# Altium footprint library PCBFeatures.PcbLib: 17 footprints (part 1 of 2)
Each footprint in its own frame and in the unit in brackets; x right, y up, seen from the top. Pads: shape width x height; smd on the part's side, far side on the other; paste and mask are expansions set on the pad; w line width, h text height; cw(c..) or ccw(c..) is an arc to the next point about the centre after c.
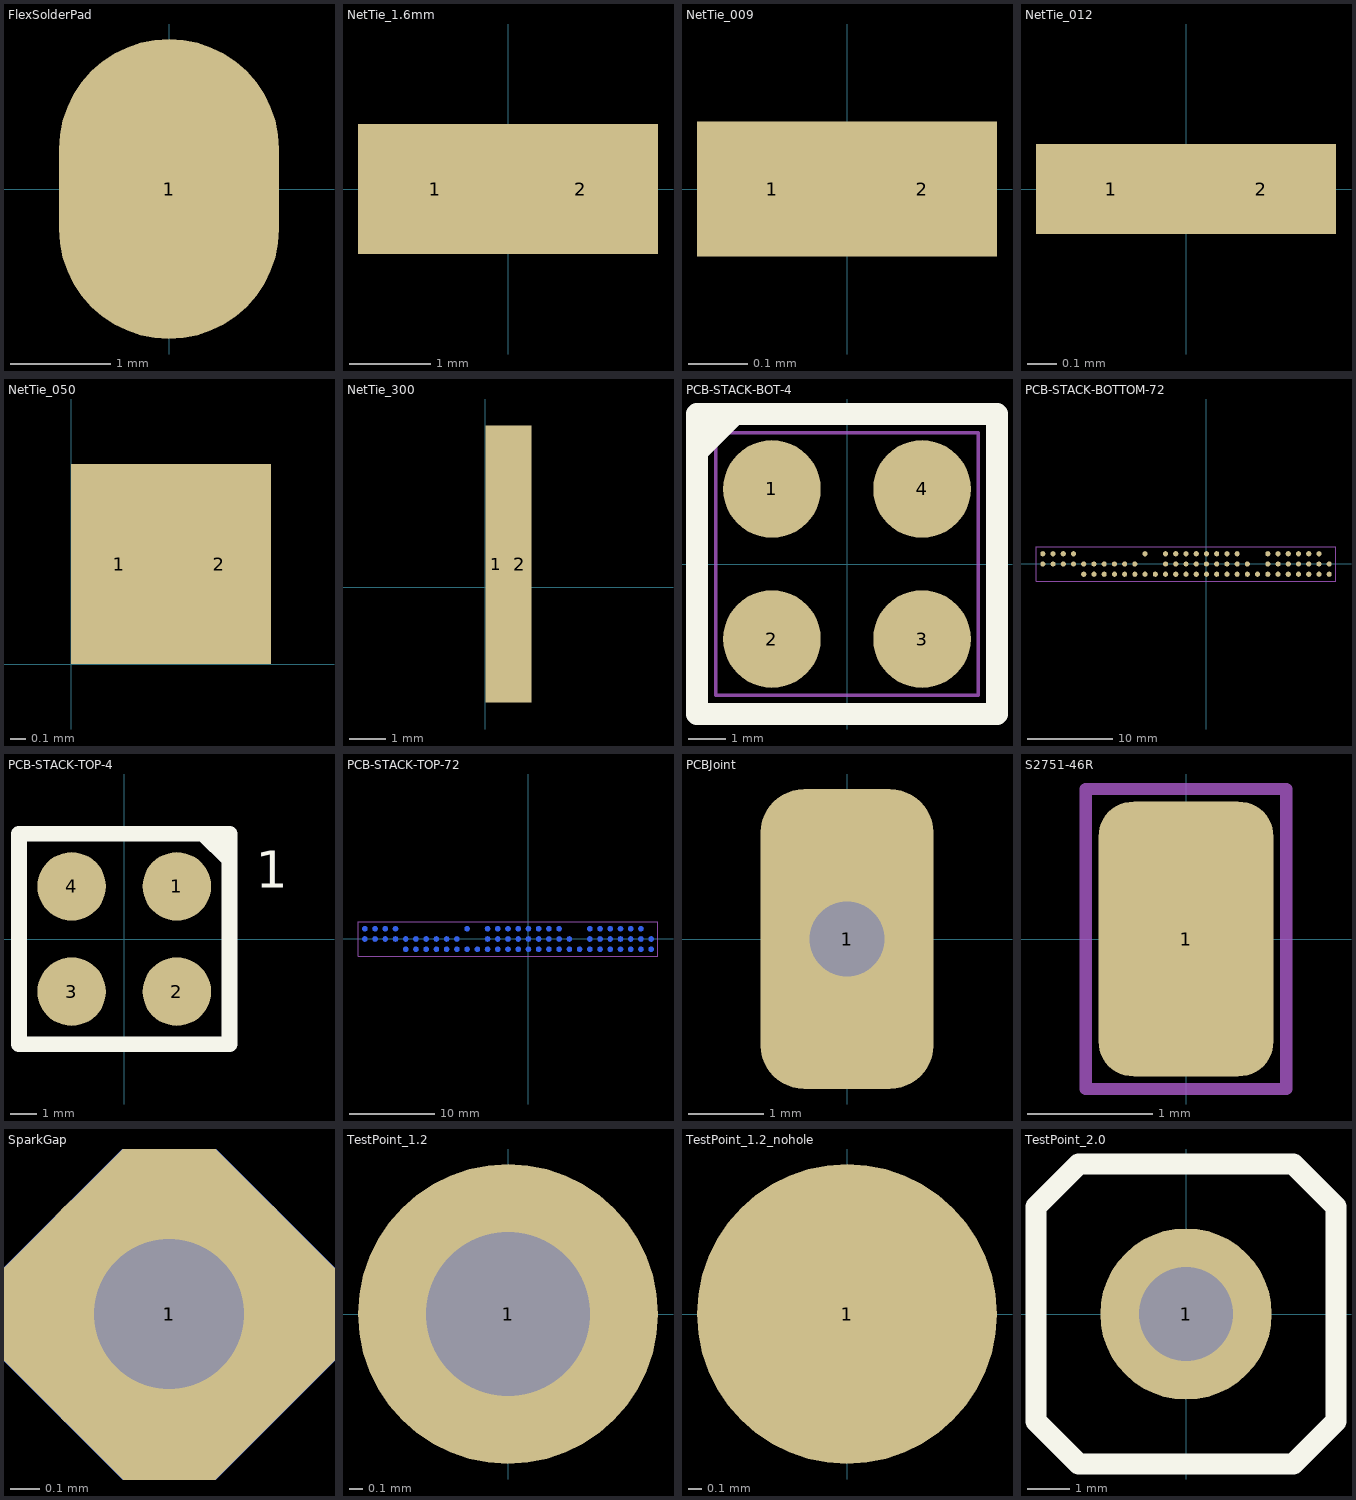
[diagram p0: the footprints below, top view; thin cyan lines are the x and y axes]

## FlexSolderPad [mm]
pads (1):
  oval 2.2x3 smd paste-99 mask-0.5: 1(0,0)

## NetTie_1.6mm [mm] "1.6mm wide net tie"
pads (2):
  rect 1.9x1.6 smd paste-2.515 mask-2.515: 1(-0.9,0) 2(0.9,0)

## NetTie_009 [mil] "0.009\" wide net tie"
pads (2):
  rect 10x9 smd paste-99 mask-99: 1(-5,0) 2(5,0)

## NetTie_012 [mil] "0.012\" wide net tie"
pads (2):
  rect 20x12 smd paste-99 mask-99: 1(-10,0) 2(10,0)

## NetTie_050 [mil] "0.050\" wide net tie"
pads (2):
  rect 24x50 smd paste-99 mask-99: 1(12,25)
  rect 26x50 smd paste-99 mask-99: 2(37,25)

## NetTie_300 [mil] "0.300\" wide net tie"
pads (2):
  rect 24x300 smd paste-99 mask-99: 1(12,25)
  rect 26x300 smd paste-99 mask-99: 2(37,25)

## PCB-STACK-BOT-4 [mm]
pads (4):
  rrect100% 2.6x2.6 smd paste-0.5 mask+0.07: 1(-2,2) 2(-2,-2) 3(2,-2) 4(2,2)
Top Overlay:
  lines w0.6: -4,3 -3,4 ; -4,-4 4,-4 4,4 -4,4 -4,-4
Assembly:
  lines w0.1: -3.5,-3.5 3.5,-3.5 3.5,3.5 -3.5,3.5 -3.5,-3.5
  text ".Designator" at -2.4,-0.3 h1.1

## PCB-STACK-BOTTOM-72 [mm]
pads (70):
  round 0.6 smd paste-0.03: DS0(-6,-1.2) DS0(6,-1.2) GND(-7.2,1.2) X0(-19.2,1.2) X1(-19.2,0) X2(-18,1.2) X3(-18,0) X4(-16.8,1.2) X5(-16.8,0) X6(-15.6,1.2) X7(-15.6,0) X8(-14.4,0) X9(-14.4,-1.2) X10(-13.2,0) X11(-13.2,-1.2) X12(-12,0) X13(-12,-1.2) X14(-10.8,0) X15(-10.8,-1.2) X16(-9.6,0) X17(-9.6,-1.2) X18(-8.4,0) X19(-8.4,-1.2) X20(-7.2,-1.2) X21(7.2,-1.2) X22(7.2,0) X23(7.2,1.2) X24(8.4,-1.2) X25(8.4,0) X26(8.4,1.2) X27(9.6,-1.2) X28(9.6,0) X29(9.6,1.2) X30(10.8,-1.2) X31(10.8,0) X32(10.8,1.2) X33(12,-1.2) X34(12,0) X35(12,1.2) X36(13.2,-1.2) X37(13.2,0) X38(13.2,1.2) X39(14.4,-1.2) X40(14.4,0) Y0(-4.8,-1.2) Y1(-4.8,0) Y2(-4.8,1.2) Y3(-3.6,-1.2) Y4(-3.6,0) Y5(-3.6,1.2) Y6(-2.4,-1.2) Y7(-2.4,0) Y8(-2.4,1.2) Y9(-1.2,-1.2) Y10(-1.2,0) Y11(-1.2,1.2) Y12(0,-1.2) Y13(0,0) Y14(0,1.2) Y15(1.2,-1.2) Y16(1.2,0) Y17(1.2,1.2) Y18(2.4,-1.2) Y19(2.4,0) Y20(2.4,1.2) Y21(3.6,-1.2) Y22(3.6,0) Y23(3.6,1.2) Y24(4.8,-1.2) Y25(4.8,0)
Assembly:
  lines w0.1: -20,-2 -20,2 15.2,2 15.2,-2 -20,-2
  text ".Designator" at 2.4,0.3 h1.1

## PCB-STACK-TOP-4 [mm]
pads (4):
  rrect100% 2.6x2.6 smd paste-0.5 mask+0.07: 1(2,2) 2(2,-2) 3(-2,-2) 4(-2,2)
Top Overlay:
  lines w0.6: 3,4 4,3 ; -4,-4 4,-4 4,4 -4,4 -4,-4
  text "1" at 5.001,1.5 h2.4
Assembly:
  lines w0.1: -4,-4 4,-4 4,4 -4,4 -4,-4
  text ".Designator" at -2.4,-0.3 h1.1

## PCB-STACK-TOP-72 [mm]
pads (70):
  round 0.6 smd far side paste-0.05: DS0(-6,-1.2) DS0(6,-1.2) GND(-7.2,1.2) X0(-19.2,1.2) X1(-19.2,0) X2(-18,1.2) X3(-18,0) X4(-16.8,1.2) X5(-16.8,0) X6(-15.6,1.2) X7(-15.6,0) X8(-14.4,0) X9(-14.4,-1.2) X10(-13.2,0) X11(-13.2,-1.2) X12(-12,0) X13(-12,-1.2) X14(-10.8,0) X15(-10.8,-1.2) X16(-9.6,0) X17(-9.6,-1.2) X18(-8.4,0) X19(-8.4,-1.2) X20(-7.2,-1.2) X21(7.2,-1.2) X22(7.2,0) X23(7.2,1.2) X24(8.4,-1.2) X25(8.4,0) X26(8.4,1.2) X27(9.6,-1.2) X28(9.6,0) X29(9.6,1.2) X30(10.8,-1.2) X31(10.8,0) X32(10.8,1.2) X33(12,-1.2) X34(12,0) X35(12,1.2) X36(13.2,-1.2) X37(13.2,0) X38(13.2,1.2) X39(14.4,-1.2) X40(14.4,0) Y0(-4.8,-1.2) Y1(-4.8,0) Y2(-4.8,1.2) Y3(-3.6,-1.2) Y4(-3.6,0) Y5(-3.6,1.2) Y6(-2.4,-1.2) Y7(-2.4,0) Y8(-2.4,1.2) Y9(-1.2,-1.2) Y10(-1.2,0) Y11(-1.2,1.2) Y12(0,-1.2) Y13(0,0) Y14(0,1.2) Y15(1.2,-1.2) Y16(1.2,0) Y17(1.2,1.2) Y18(2.4,-1.2) Y19(2.4,0) Y20(2.4,1.2) Y21(3.6,-1.2) Y22(3.6,0) Y23(3.6,1.2) Y24(4.8,-1.2) Y25(4.8,0)
Bottom Overlay:
  lines w0.1: -19.9,-1.9 -19.9,1.9 15.1,1.9 15.1,-1.9 -19.9,-1.9
Assembly:
  lines w0.1: -20,-2 -20,2 15.2,2 15.2,-2 -20,-2
  text ".Designator" at 2.4,0.3 h1.1

## PCBJoint [mm]
pads (1):
  rrect50% 2.3x4 hole 1 paste-99: 1(0,0)

## S2751-46R [mm]
pads (1):
  rrect40% 1.4x2.2 smd paste-0.051 mask+0.09: 1(0,0)
Assembly:
  lines w0.1: -0.8,-1.2 0.8,-1.2 0.8,1.2 -0.8,1.2 -0.8,-0.1 -0.8,-1.2
  text ".Designator" at 0.2,-1.1 h0.7
3D body "s2751-46r.stp": height 1.38, standoff -0.04, extent -0.6,-1 0.6,1

## SparkGap [mil]
pads (2):
  rect 40x40 smd rot 45 paste-99 mask+4: 1(0,0)
  rect 40x40 smd far side rot 45 paste-99 mask+4: 1(0,0)
via 0,0 diameter 40 hole 20

## TestPoint_1.2 [mm]
pads (1):
  round 2.2 hole 1.2: 1(0,0)

## TestPoint_1.2_nohole [mm]
pads (1):
  round 2.2 smd paste-99 mask+0.09: 1(0,0)

## TestPoint_2.0 [mm]
pads (1):
  round 4 hole 2.2: 1(0,0)
Top Overlay:
  lines w0.5: -3.5,-2.5 -2.5,-3.5 2.5,-3.5 3.5,-2.5 3.5,2.5 2.5,3.5 0,3.5 -2.5,3.5 -3.5,2.5 -3.5,-2.5